# Altium integrated library Handheld.IntLib: 34 symbols
Pins are listed as number, name and electrical type; pins without a type are passive.

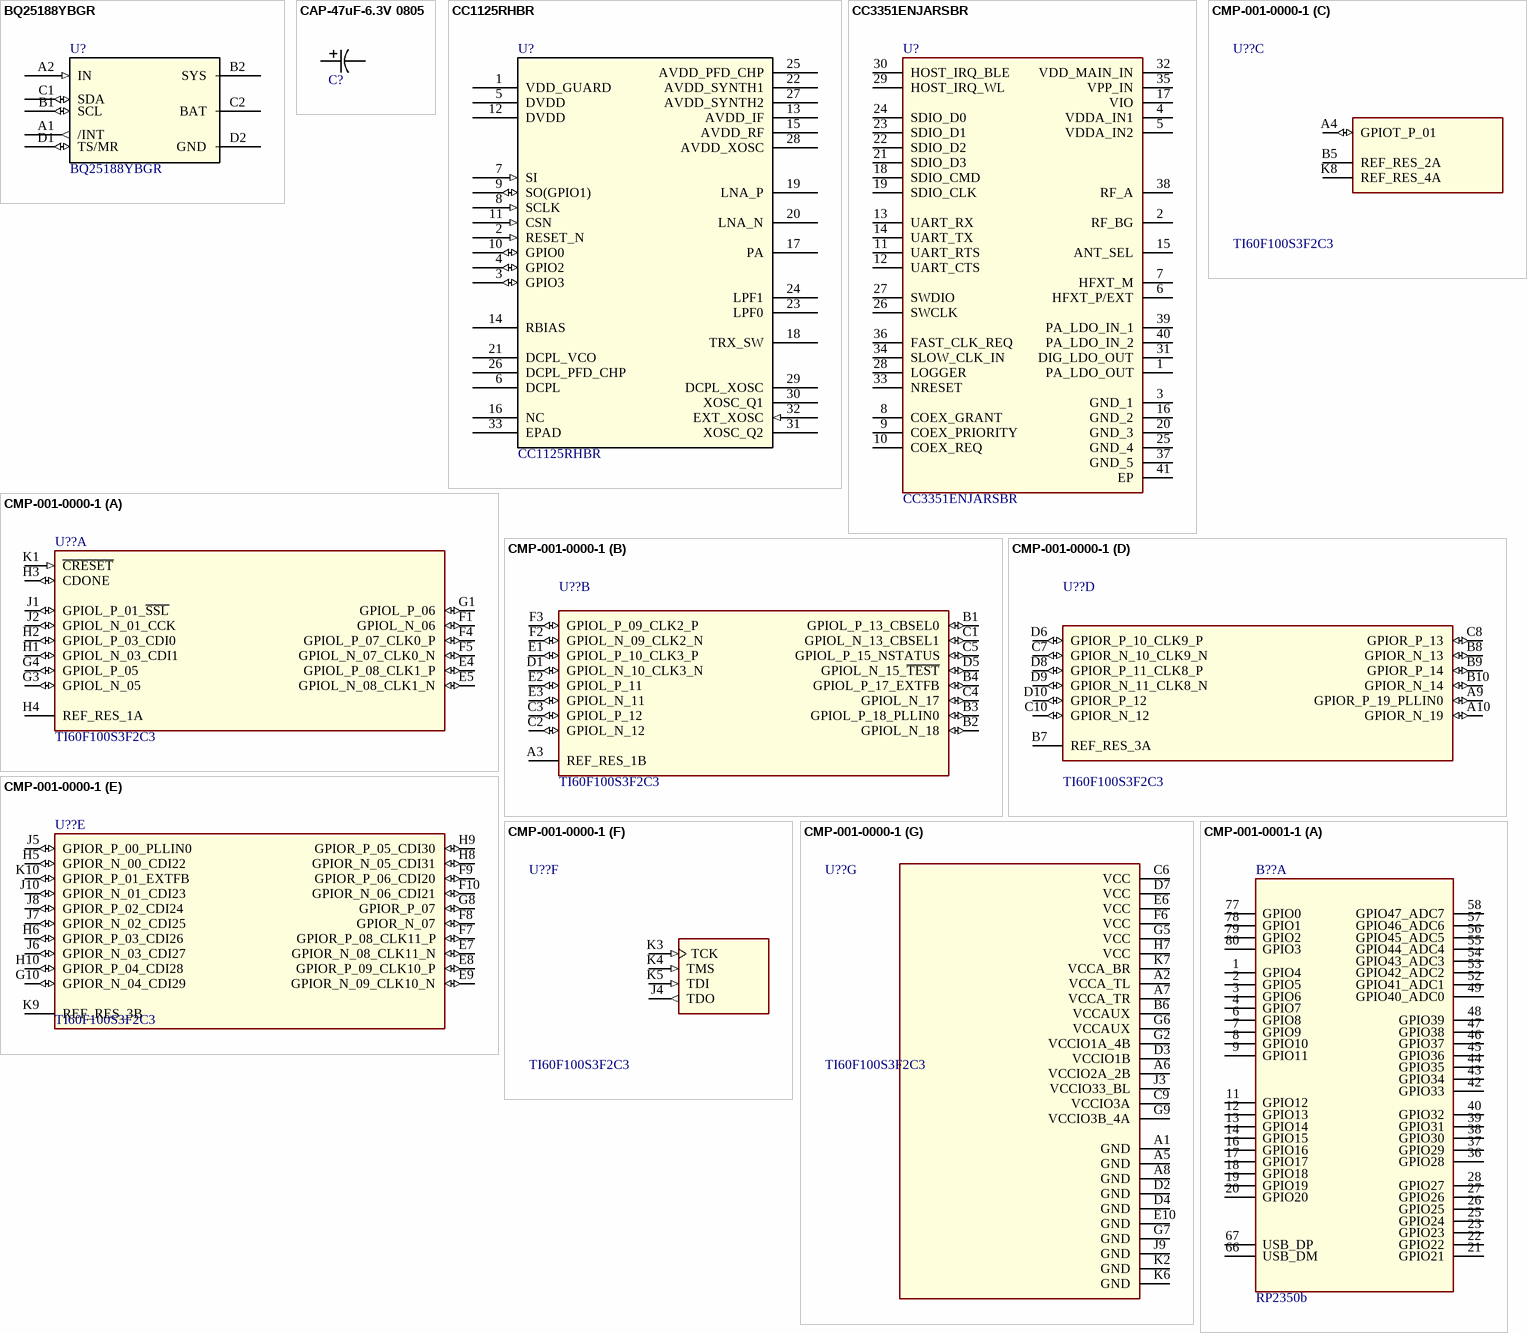
[diagram p0: symbols BQ25188YBGR to CMP-001-0001-1]

## BQ25188YBGR
designator U?
I2C, 1A single cell linear battery charger, 18V input, powerpath, ship mode and battery tracking 8-DSBGA -40 to 85; Manufacturer_Name: Texas Instruments; Copyright: Copyright (C) 2025 Ultra Librarian. All rights reserved.; Manufacturer_Part_Number: BQ25188YBGR; RefDes: RefDes; Type: Type
footprint DSBGA8_YCK_TEX
pins: A1 /INT (out), A2 IN (in), B1 SCL (io), B2 SYS (power), C1 SDA (io), C2 BAT (power), D1 TS/MR (io), D2 GND (power)

## CAP-47uF-6.3V 0805
designator C?, comment T529P476M006AAE150  (value not drawn)
T529, Tantalum, Polymer Tantalum, Reduced Volume, 47 uF, 20%, 6.3 VDC, SMD, Polymer, Substrate, 150 mOhms, 2012, Height Max = 1mm; Manufacturer_Name: Kemet; Copyright: Copyright (C) 2025 Ultra Librarian. All rights reserved.; Manufacturer_Part_Number: T529P476M006AAE150; Datasheet: https://content.kemet.com/datasheets/KEM_T2076_T52X-530.pdf
footprint CAPMP2.1X1.25_1N_KEM
pins: 1, 2

## CC1125RHBR
designator U?
Ultra-high performance Sub-1 GHz wireless transceiver for narrowband systems 32-VQFN -40 to 85; Manufacturer_Name: Texas Instruments; Copyright: Copyright (C) 2025 Ultra Librarian. All rights reserved.; Manufacturer_Part_Number: CC1125RHBR; RefDes: RefDes; Type: Type
footprint RHB32_3P45X3P45_TEX
pins: 1 VDD_GUARD (power), 2 RESET_N (in), 3 GPIO3 (io), 4 GPIO2 (io), 5 DVDD (power), 6 DCPL (power), 7 SI (in), 8 SCLK (in), 9 SO(GPIO1) (io), 10 GPIO0 (io), 11 CSN (in), 12 DVDD (power), 13 AVDD_IF (power), 14 RBIAS, 15 AVDD_RF (power), 16 NC, 17 PA, 18 TRX_SW, 19 LNA_P, 20 LNA_N, 21 DCPL_VCO (power), 22 AVDD_SYNTH1 (power), 23 LPF0, 24 LPF1, 25 AVDD_PFD_CHP (power), 26 DCPL_PFD_CHP (power), 27 AVDD_SYNTH2 (power), 28 AVDD_XOSC (power), 29 DCPL_XOSC (power), 30 XOSC_Q1, 31 XOSC_Q2, 32 EXT_XOSC (in), 33 EPAD

## CC3351ENJARSBR
designator U?
Wi-Fi 6 (802.11ax)  Bluetooth Low Energy 5.4 in CC33x1 devices  Companion IC to any processor or MCU host capable of running a TCP/IP stack  Integrated 2.4GHz and 5GHz PA for complete wireless solution with up to +20.5dBm output power.  Operating temperature: 40C to +105C  Application throughput up to 50Mbps; Manufacturer_Name: Texas Instruments; Geometry.Height: 0.8mm; Manufacturer_Part_Number: CC3351ENJARSBR; Mouser Part Number: 595-CC3351ENJARSBR; Mouser Price/Stock: https://www.mouser.co.uk/ProductDetail/Texas-Instruments/CC3351ENJARSBR?qs=iLKYxzqNS77FIPECga1PlQ%3D%3D; Arrow Part Number: CC3351ENJARSBR; Arrow Price/Stock: https://www.arrow.com/en/products/cc3351enjarsbr/texas-instruments?utm_currency=USD&region=nac; Datasheet Link: https://www.ti.com/lit/ds/symlink/cc3351.pdf?ts=1729762003874&ref_url=https%253A%252F%252Fwww.ti.com%252F
footprint QFN40P500X500X80-41N-D
pins: 1 PA_LDO_OUT, 2 RF_BG, 3 GND_1, 4 VDDA_IN1, 5 VDDA_IN2, 6 HFXT_P/EXT, 7 HFXT_M, 8 COEX_GRANT, 9 COEX_PRIORITY, 10 COEX_REQ, 11 UART_RTS, 12 UART_CTS, 13 UART_RX, 14 UART_TX, 15 ANT_SEL, 16 GND_2, 17 VIO, 18 SDIO_CMD, 19 SDIO_CLK, 20 GND_3, 21 SDIO_D3, 22 SDIO_D2, 23 SDIO_D1, 24 SDIO_D0, 25 GND_4, 26 SWCLK, 27 SWDIO, 28 LOGGER, 29 HOST_IRQ_WL, 30 HOST_IRQ_BLE, 31 DIG_LDO_OUT, 32 VDD_MAIN_IN, 33 NRESET, 34 SLOW_CLK_IN, 35 VPP_IN, 36 FAST_CLK_REQ, 37 GND_5, 38 RF_A, 39 PA_LDO_IN_1, 40 PA_LDO_IN_2, 41 EP

## CMP-001-0000-1
designator U??, comment TI60F100S3F2C3
FPGA Titan 61HSIO 3PLL 100BGA; Manufacturer: Efinix; PartId: 1; Manufacturer Part Number: TI60F100S3F2C3
footprint IC_TI60F100S3F2C3
part A pins: E4 GPIOL_P_08_CLK1_P (io), E5 GPIOL_N_08_CLK1_N (io), F1 GPIOL_N_06 (io), F4 GPIOL_P_07_CLK0_P (io), F5 GPIOL_N_07_CLK0_N (io), G1 GPIOL_P_06 (io), G3 GPIOL_N_05 (io), G4 GPIOL_P_05 (io), H1 GPIOL_N_03_CDI1 (io), H2 GPIOL_P_03_CDI0 (io), H3 CDONE (io), H4 REF_RES_1A, J1 GPIOL_P_01_~{SSL} (io), J2 GPIOL_N_01_CCK (io), K1 ~{CRESET} (in)
part B pins: A3 REF_RES_1B, B1 GPIOL_P_13_CBSEL0 (io), B2 GPIOL_N_18 (io), B3 GPIOL_P_18_PLLIN0 (io), B4 GPIOL_P_17_EXTFB (io), C1 GPIOL_N_13_CBSEL1 (io), C2 GPIOL_N_12 (io), C3 GPIOL_P_12 (io), C4 GPIOL_N_17 (io), C5 GPIOL_P_15_NSTATUS (io), D1 GPIOL_N_10_CLK3_N (io), D5 GPIOL_N_15_~{TEST} (io), E1 GPIOL_P_10_CLK3_P (io), E2 GPIOL_P_11 (io), E3 GPIOL_N_11 (io), F2 GPIOL_N_09_CLK2_N (io), F3 GPIOL_P_09_CLK2_P (io)
part C pins: A4 GPIOT_P_01 (io), B5 REF_RES_2A, K8 REF_RES_4A
part D pins: A9 GPIOR_P_19_PLLIN0 (io), A10 GPIOR_N_19 (io), B7 REF_RES_3A, B8 GPIOR_N_13 (io), B9 GPIOR_P_14 (io), B10 GPIOR_N_14 (io), C7 GPIOR_N_10_CLK9_N (io), C8 GPIOR_P_13 (io), C10 GPIOR_N_12 (io), D6 GPIOR_P_10_CLK9_P (io), D8 GPIOR_P_11_CLK8_P (io), D9 GPIOR_N_11_CLK8_N (io), D10 GPIOR_P_12 (io)
part E pins: E7 GPIOR_N_08_CLK11_N (io), E8 GPIOR_P_09_CLK10_P (io), E9 GPIOR_N_09_CLK10_N (io), F7 GPIOR_P_08_CLK11_P (io), F8 GPIOR_N_07 (io), F9 GPIOR_P_06_CDI20 (io), F10 GPIOR_N_06_CDI21 (io), G8 GPIOR_P_07 (io), G10 GPIOR_N_04_CDI29 (io), H5 GPIOR_N_00_CDI22 (io), H6 GPIOR_P_03_CDI26 (io), H8 GPIOR_N_05_CDI31 (io), H9 GPIOR_P_05_CDI30 (io), H10 GPIOR_P_04_CDI28 (io), J5 GPIOR_P_00_PLLIN0 (io), J6 GPIOR_N_03_CDI27 (io), J7 GPIOR_N_02_CDI25 (io), J8 GPIOR_P_02_CDI24 (io), J10 GPIOR_N_01_CDI23 (io), K9 REF_RES_3B, K10 GPIOR_P_01_EXTFB (io)
part F pins: J4 TDO (out), K3 TCK (in), K4 TMS (in), K5 TDI (in)
part G pins: A1 GND (power), A2 VCCA_TL (power), A5 GND (power), A6 VCCIO2A_2B (power), A7 VCCA_TR (power), A8 GND (power), B6 VCCAUX (power), C6 VCC (power), C9 VCCIO3A (power), D2 GND (power), D3 VCCIO1B (power), D4 GND (power), D7 VCC (power), E6 VCC (power), E10 GND (power), F6 VCC (power), G2 VCCIO1A_4B (power), G5 VCC (power), G6 VCCAUX (power), G7 GND (power), G9 VCCIO3B_4A (power), H7 VCC (power), J3 VCCIO33_BL (power), J9 GND (power), K2 GND (power), K6 GND (power), K7 VCCA_BR (power)

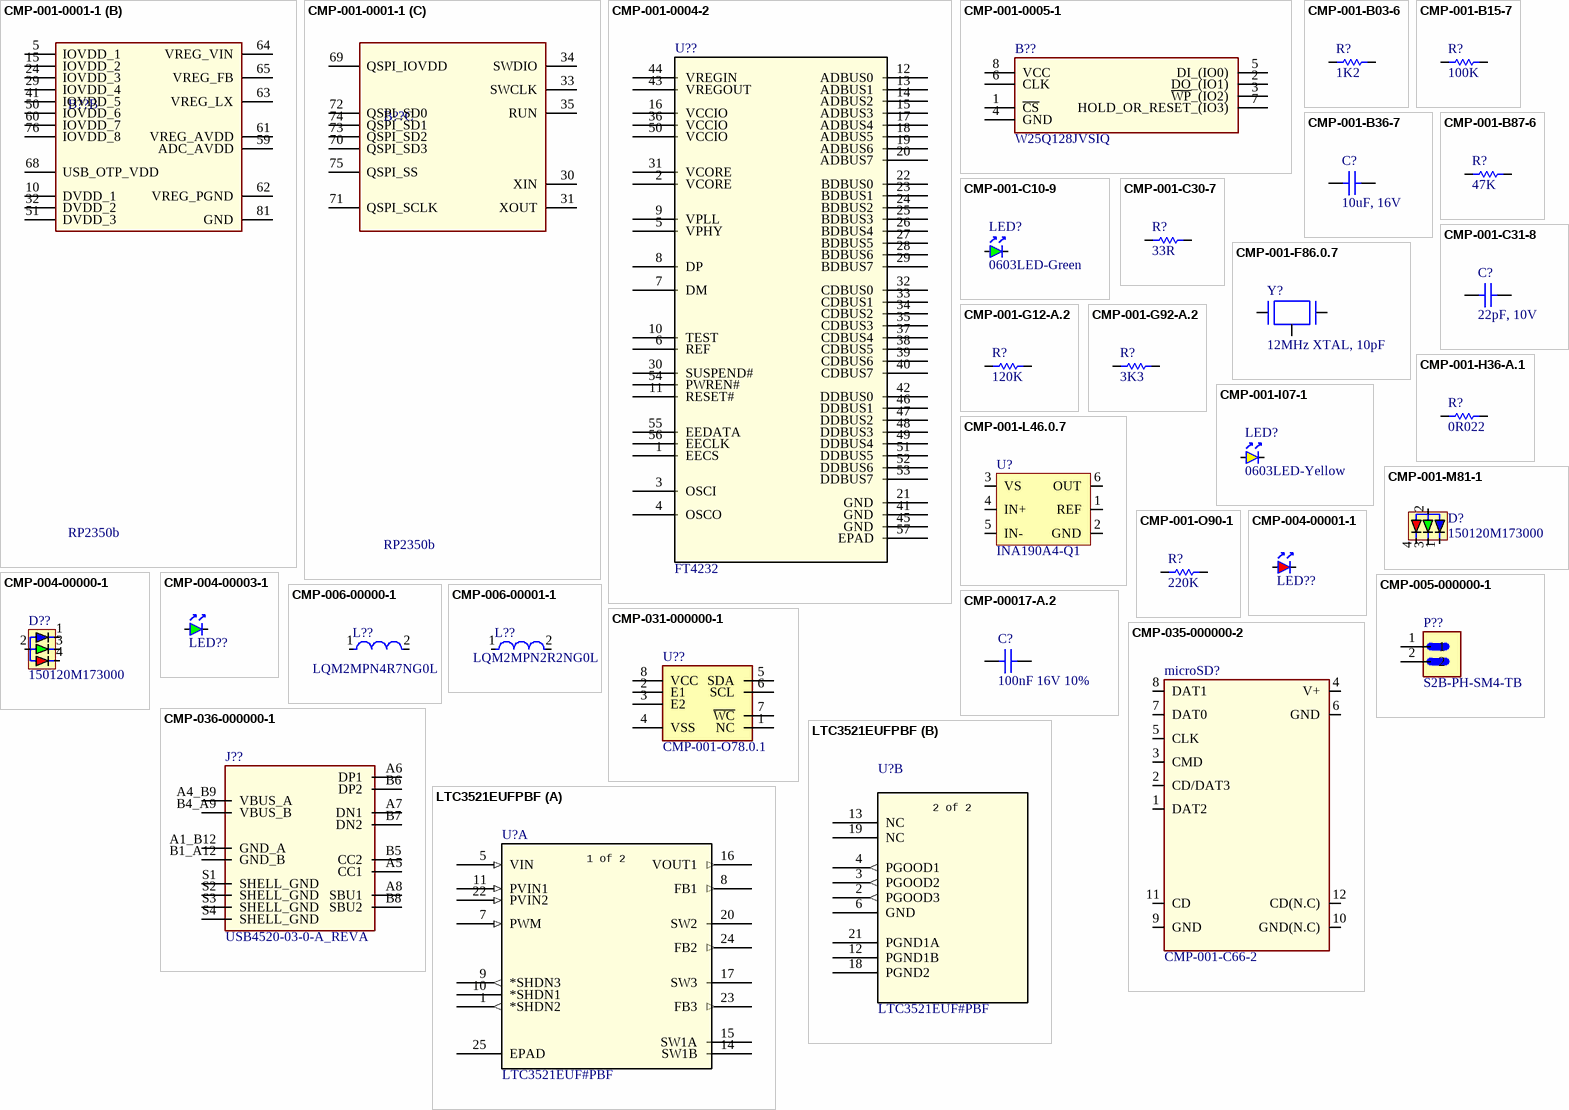
[diagram p1: symbols CMP-001-0001-1 to LTC3521EUFPBF]

## CMP-001-0001-1
designator B??, comment RP2350b
2x Arm Cortex-M33 / 2x Hazard3 RISC-V @ 150MHz, 520 KB SRAM, SHA-256; Manufacturer: Raspberry Pi; Manufacturer Part Number: RP2350B-CT; PartId: 1
footprint QFN40P1000X1000X90-81N-D
part A pins: 1 GPIO4, 2 GPIO5, 3 GPIO6, 4 GPIO7, 6 GPIO8, 7 GPIO9, 8 GPIO10, 9 GPIO11, 11 GPIO12, 12 GPIO13, 13 GPIO14, 14 GPIO15, 16 GPIO16, 17 GPIO17, 18 GPIO18, 19 GPIO19, 20 GPIO20, 21 GPIO21, 22 GPIO22, 23 GPIO23, 25 GPIO24, 26 GPIO25, 27 GPIO26, 28 GPIO27, 36 GPIO28, 37 GPIO29, 38 GPIO30, 39 GPIO31, 40 GPIO32, 42 GPIO33, 43 GPIO34, 44 GPIO35, 45 GPIO36, 46 GPIO37, 47 GPIO38, 48 GPIO39, 49 GPIO40_ADC0, 52 GPIO41_ADC1, 53 GPIO42_ADC2, 54 GPIO43_ADC3, 55 GPIO44_ADC4, 56 GPIO45_ADC5, 57 GPIO46_ADC6, 58 GPIO47_ADC7, 66 USB_DM, 67 USB_DP, 77 GPIO0, 78 GPIO1, 79 GPIO2, 80 GPIO3
part B pins: 5 IOVDD_1, 10 DVDD_1, 15 IOVDD_2, 24 IOVDD_3, 29 IOVDD_4, 32 DVDD_2, 41 IOVDD_5, 50 IOVDD_6, 51 DVDD_3, 59 ADC_AVDD, 60 IOVDD_7, 61 VREG_AVDD, 62 VREG_PGND, 63 VREG_LX, 64 VREG_VIN, 65 VREG_FB, 68 USB_OTP_VDD, 76 IOVDD_8, 81 GND
part C pins: 30 XIN, 31 XOUT, 33 SWCLK, 34 SWDIO, 35 RUN, 69 QSPI_IOVDD, 70 QSPI_SD3, 71 QSPI_SCLK, 72 QSPI_SD0, 73 QSPI_SD2, 74 QSPI_SD1, 75 QSPI_SS

## CMP-001-0004-2
designator U??, comment FT4232
Usb Hi-speed to Quad Channel Serial UART/JTAG/SPI/I2C IC, QFN-56; Manufacturer: FTDI; Manufacturer Part Number: FT4232H-56Q-REEL; Data Rate: 1.5Mbps; Max Supply Voltage: 1.98V; Number of I/Os: 4; Interface: I2C, RS-232, RS-422, RS-485, SPI, UART, USB; Clock Frequency: 12MHz; Min Supply Voltage: 1.62V; Operating Supply Voltage: 1.8V; Width: 8mm; RoHS: Compliant; Length: 8mm; Number of Terminals: 56; Height - Seated (Max): 1mm; Packaging: Cut Tape; REACH SVHC: Yes; Min Operating Temperature: -40°C; Case/Package: VQFN; Terminal Pitch: 500µm; Pins: 64; Lifecycle Status: Production; Max Operating Temperature: 85°C
footprint VQFN-56Y856_FTD-M
pins: 1 EECS, 2 VCORE, 3 OSCI, 4 OSCO, 5 VPHY, 6 REF, 7 DM, 8 DP, 9 VPLL, 10 TEST, 11 RESET#, 12 ADBUS0, 13 ADBUS1, 14 ADBUS2, 15 ADBUS3, 16 VCCIO, 17 ADBUS4, 18 ADBUS5, 19 ADBUS6, 20 ADBUS7, 21 GND, 22 BDBUS0, 23 BDBUS1, 24 BDBUS2, 25 BDBUS3, 26 BDBUS4, 27 BDBUS5, 28 BDBUS6, 29 BDBUS7, 30 SUSPEND#, 31 VCORE, 32 CDBUS0, 33 CDBUS1, 34 CDBUS2, 35 CDBUS3, 36 VCCIO, 37 CDBUS4, 38 CDBUS5, 39 CDBUS6, 40 CDBUS7, 41 GND, 42 DDBUS0, 43 VREGOUT, 44 VREGIN, 45 GND, 46 DDBUS1, 47 DDBUS2, 48 DDBUS3, 49 DDBUS4, 50 VCCIO, 51 DDBUS5, 52 DDBUS6, 53 DDBUS7, 54 PWREN#, 55 EEDATA, 56 EECLK, 57 EPAD

## CMP-001-0005-1
designator B??, comment W25Q128JVSIQ
NOR Flash Serial (SPI, Dual SPI, Quad SPI) 3.3V 128M-bit 16M x 8 6ns 8-Pin SOIC Tube; Manufacturer: Winbond; Frequency: 104MHz; Number of Circuits: 1; Memory Size: 16MB; Operating Supply Voltage: 3V; Max Supply Current: 20mA; Min Supply Voltage: 2.7V; Clock Frequency: 133MHz; Max Supply Voltage: 3.6V; Schedule B: 8542320070, 8542320070; Interface: Serial; RoHS: Compliant; Width: 5.23mm; Min Operating Temperature: -40°C; Number of Terminals: 8; Max Operating Temperature: 85°C; Case/Package: SOIC; Length: 5.23mm; Memory Format: FLASH; Height - Seated (Max): 2.16mm; REACH SVHC: Yes; Ambient Temperature Range High: 85°C; Lifecycle Status: Production; Terminal Pitch: 1.27mm; Height: 2.16mm; China RoHS: Compliant; Manufacturer Part Number: W25Q128JVSIQ
footprint SOIC127P790X216-8N
pins: 1 ~{CS}, 2 DO_(IO1), 3 ~{WP}_(IO2), 4 GND, 5 DI_(IO0), 6 CLK, 7 HOLD_OR_RESET_(IO3), 8 VCC

## CMP-001-B03-6
designator R?, comment 1K2
1K2, 5%, 1/10W, 0603; Manufacturer: Samsung Electro-Mechanics America, Inc; Manufacturer Part Number: RC1608J122CS
footprint 0603 Resistor (Chip Resistor, Body 1.6x0.8mm, IPC High Density)
pins: 1, 2
1 alternate drawing of the same symbol

## CMP-001-B15-7
designator R?, comment 100K
100K, 1%, 1/10W, 0603; Manufacturer Part Number: ERJ-3EKF1003V; Manufacturer: Panasonic; Manufacturer Part Number: ERJ3EKF-1003V; Resistance: 100kR; Temperature Coefficient: 100ppm/°C; Voltage Rating: 75V; Power Rating: 100mW; Packaging: Tape and Reel; Contact Plating: Tin; Supplier: Digi-Key; Tolerance: 1%; Package Quantity: 1; Length: 1.6mm; Weight: 7.1E-05oz; Number of Terminations: 2; Height: 0.022inch; Case/Package: 0603; Military Standard: Not; Depth: 0.8mm; REACH SVHC: No SVHC; Case Code (Metric): 1608; Min Operating Temperature: -55°C; Features: Automotive AEC-Q200; Max Operating Temperature: 155°C; Mount: Surface Mount; Voltage Rating (DC): 75V; Termination: SMD/SMT; Lead Free: Lead Free; Width: 0.8mm; Composition: Thick Film; Case Code (Imperial): 0603; Supplier Part Number: P100KHTR-ND; Max Power Dissipation: 100mW; Number of Pins: 2; Radiation Hardening: No
footprint 0603 Resistor (Chip Resistor, Body 1.6x0.8mm, IPC High Density)
pins: 1, 2
1 alternate drawing of the same symbol

## CMP-001-B36-7
designator C?, comment 10uF, 16V
10uF, 16V, 20%, X5R, 0603; value: 10uF
footprint 0603 Capacitor (Chip Capacitor, Body 1.6x0.8mm, Height 0.55mm, IPC High Density)
pins: 1, 2
1 alternate drawing of the same symbol

## CMP-001-B87-6
designator R?, comment 47K
47K, 1%, 1/10W, 0603; Manufacturer: Rohm Semiconductor; Manufacturer Part Number: MCR03ERTF4702
footprint 0603 Resistor (Chip Resistor, Body 1.6x0.8mm, IPC High Density)
pins: 1, 2
1 alternate drawing of the same symbol

## CMP-001-C10-9
designator LED?, comment 0603LED-Green
SMD LED 0603, Green; Component Type: LED
footprint LED-0603-RED
pins: 1 A, 2 K

## CMP-001-C30-7
designator R?, comment 33R
33R, 1%, 1/10W, 0603; Manufacturer: Panasonic; Manufacturer Part Number: ERJ-3EKF33R0V; Temperature Coefficient: 100ppm/°C; Max Power Dissipation: 100mW; Voltage Rating: 75V; REACH SVHC: No SVHC; Resistance: 33R; Composition: Thick Film; Tolerance: 1%; Lead Free: Lead Free; Contact Plating: Tin; Package Quantity: 1; Number of Terminations: 2; Number of Pins: 2; Case Code (Metric): 1608; Width: 0.031inch; Min Operating Temperature: -55°C; Military Standard: Not; Termination: SMD/SMT; Radiation Hardening: No; Case Code (Imperial): 0603; Mount: Surface Mount; Depth: 0.8mm; Max Operating Temperature: 155°C; Voltage Rating (DC): 75V; Features: Automotive AEC-Q200; Power Rating: 100mW; Packaging: Tape and Reel; Supplier Part Number: P33.0HCT-ND; Length: 1.6mm; Supplier: Digi-Key; Height: 0.022inch; Case/Package: 0603
footprint 0603 Resistor (Chip Resistor, Body 1.6x0.8mm, IPC High Density)
pins: 1, 2
1 alternate drawing of the same symbol

## CMP-001-C31-8
designator C?, comment 22pF, 10V
22pF, 10V, 1%, NP0, 0603; Manufacturer: Samsung Electro-Mechanics America, Inc; Manufacturer Part Number: CL10C220FB8NNNC
footprint 0603 Capacitor (Chip Capacitor, Body 1.6x0.8mm, Height 0.55mm, IPC High Density)
pins: 1, 2
1 alternate drawing of the same symbol

## CMP-001-F86.0.7
designator Y?, comment 12MHz XTAL, 10pF
Crystal oscillator, 10pF; Manufacturer: Epson; Manufacturer Part Number: FA-238V 12.0000MB-K3
footprint FA-238V (Crystal DFN 4 pads FA-238V footprint)
pins: 1, 2, 3, 4 (power)

## CMP-001-G12-A.2
designator R?, comment 120K
120K, 0.1%, 1/10W, 0603; Manufacturer: PANASONIC ELECTRONIC COMPONENTS; Manufacturer Part Number: ERA-3AEB124V
footprint 0603 Resistor (Chip Resistor, Body 1.6x0.8mm, IPC High Density)
pins: 1, 2
1 alternate drawing of the same symbol

## CMP-001-G92-A.2
designator R?, comment 3K3
3K3, 5%, 1/10W, 0603; Manufacturer: Panasonic; Manufacturer Part Number: ERJ-3GEYJ332V
footprint 0603 Resistor (Chip Resistor, Body 1.6x0.8mm, IPC High Density)
pins: 1, 2
1 alternate drawing of the same symbol

## CMP-001-H36-A.1
designator R?, comment 0R022
0R022, 2%, 1/2W, 1206; Component Type: Resistor
footprint 1206 Resistor Package (High Power 1206 Resistor)
pins: 1, 2
1 alternate drawing of the same symbol

## CMP-001-I07-1
designator LED?, comment 0603LED-Yellow
SMD LED 0603, Yellow; Manufacturer: Vishay; Manufacturer Part Number: TLMO1100-GS08; Component Type: LED
footprint LED-0603-RED
pins: 1 A, 2 K

## CMP-001-L46.0.7
designator U?, comment INA190A4-Q1
Automotive grade current sense amplifier, 200x gain; Manufacturer: Texas Instruments; Manufacturer Part Number: INA190A4QDCKRQ1; Component Type: Amplifier
footprint SOT65P210X110-6N (SOT23, 6-Leads, Body 2.00x2.10mm, Pitch 0.65mm, IPC Medium Density)
pins: 1 REF, 2 GND, 3 VS, 4 IN+, 5 IN-, 6 OUT

## CMP-001-M81-1
designator D?, comment 150120M173000
1206 RGB LED Wurth; Manufacturer: Wurth Elektronik; Manufacturer Part Number: 150120M173000; Component Type: LED
footprint 150120M173000-Footprint-1
pins: 1 5, 2 Anode, 3 4, 4 3

## CMP-001-O90-1
designator R?, comment 220K
220K, 1%, 1/10W, 0603; Component Type: Resistor
footprint 0603 Resistor (Chip Resistor, Body 1.6x0.8mm, IPC High Density)
pins: 1, 2
1 alternate drawing of the same symbol

## CMP-004-00000-1
designator D??, comment 150120M173000
Led, Red/Green/Blue, 360Mcd/1Cd/350Mcd Rohs Compliant: Yes; Manufacturer: Wurth Elektronik; Max Reverse Voltage (DC): 5V; Viewing Angle: 120°; Forward Current: 100mA; Luminous Intensity: 350mcd; Dominant Wavelength: 525nm; Forward Voltage: 2V; Power Dissipation: 65mW; Peak Wavelength: 468nm; Max Operating Temperature: 85°C; Width: 1.6mm; Length: 3.2mm; Height: 700µm; RoHS: Compliant; Min Operating Temperature: -40°C; Manufacturer Part Number: 150120M173000; Component Type: Diodes
footprint WL-SFCW_1206 (SMT Full-color Chip LED Waterclear, body 3.20 x 1.60mm)
pins: 1 5, 2 Anode, 3 4, 4 3

## CMP-004-00001-1
designator LED??, comment SMD LED, 0603 Red  (value not drawn)
0603LED-Red; Source: Components - 10.10.25 - 00.17.SchLib; Pin Count: 2; Design Item ID: CMP-001-A01-11; Component Type: Standard; Component Type: LED
footprint LED-0603-RED
pins: 1 A, 2 K

## CMP-004-00003-1
designator LED??, comment SMD LED 0603, Green  (value not drawn)
0603LED-Green; Component Type: Standard; Design Item ID: CMP-001-C10-9; Source: Components - 10.10.25 - 00.17.SchLib; Pin Count: 2; Component Type: LED
footprint LED-0603-RED
pins: 1 A, 2 K

## CMP-005-000000-1
designator P??, comment S2B-PH-SM4-TB
Connector Header Surface Mount, Right Angle 2 position 0.079 (2.00mm); MF: JST Sales; SnapEDA_Link: https://www.snapeda.com/parts/S2B-PH-SM4-TB/JST/view-part/?ref=snap; Package: None; Source: Handheld.SchLib; Value: *; Design Item ID: S2B-PH-SM4-TB; MP: S2B-PH-SM4-TB; Check_prices: https://www.snapeda.com/parts/S2B-PH-SM4-TB/JST/view-part/?ref=eda; Component Type: Connectors
footprint JST_S2B-PH-SM4-TB
pins: 1, 2

## CMP-006-00000-1
designator L??, comment LQM2MPN4R7NG0L
Inductor Power Chip Shielded Multi-Layer 4.7uH 30% 1MHz Ferrite 1.1A 0.175Ohm DCR 0806 T/R; Manufacturer Lifecycle Status: IN PRODUCTION; Manufacturer: Murata; Self Resonant Frequency: 20MHz; Value: 175mΩ; Number of Circuits: 1; Shielding: Yes; Case Code (Metric): 2016; REACH SVHC: Yes; Military Standard: Not; Height - Seated (Max): 990.6µm; Max Current Rating: 1.1A; Min Operating Temperature: -55°C; Core Material: Ferrite; Termination: SMD/SMT; Tolerance: 30%; Mounting Technology: Surface Mount; Number of Terminals: 2; Max DC Current: 1.1A; RoHS: Compliant; Lifecycle Status: Production; Depth: 1.6mm; Case/Package: 0806; Case Code (Imperial): 0806; Packaging: Cut Tape; RMS Current (Irms): 1.1A; Inductance Tolerance: 30%; Current Rating: 1.1A; Schedule B: 8504500000, 8504500000; ESR: 175mΩ; Test Frequency: 1MHz; Length: 2mm; DC Current: 1.1A; Max Operating Temperature: 125°C; DC Resistance (DCR): 175mΩ; Height: 900µm; Lead Free: Lead Free; Width: 1.6mm; Manufacturer Part Number: LQM2MPN4R7NG0L; Component Type: Inductors
footprint FP-LQM2MPN_G0-IPC_B
pins: 1, 2

## CMP-006-00001-1
designator L??, comment LQM2MPN2R2NG0L
Inductor Power Chip Shielded Multi-Layer 2.2uH 30% 1MHz Ferrite 1.2A 0.138Ohm DCR 0806 T/R; Manufacturer Lifecycle Status: IN PRODUCTION; Manufacturer: Murata; Value: 138mΩ; Shielding: Yes; Self Resonant Frequency: 40MHz; Number of Circuits: 1; Depth: 1.75mm; Max Operating Temperature: 125°C; DC Current: 1.2A; Schedule B: 8504500000, 8504500000; Test Frequency: 1MHz; Current Rating: 1.2A; Case Code (Imperial): 0806; Packaging: Cut Tape; Military Standard: Not; Height: 900µm; Max Current Rating: 1.2A; Lead Free: Lead Free; Tolerance: 30%; REACH SVHC: Yes; Min Operating Temperature: -55°C; Radiation Hardening: No; Number of Terminals: 2; ESR: 138mΩ; Width: 1.6mm; Inductance Tolerance: 30%; Lifecycle Status: Production; Height - Seated (Max): 990.6µm; Case Code (Metric): 2016; Case/Package: 0806; Max DC Current: 1.2A; Core Material: Ferrite; Termination: SMD/SMT; RoHS: Compliant; Mounting Technology: Surface Mount; RMS Current (Irms): 1.2A; DC Resistance (DCR): 138mΩ; Length: 2.0066mm; Manufacturer Part Number: LQM2MPN2R2NG0L; Component Type: Inductors
footprint FP-LQM2MPN_G0-IPC_B
pins: 1, 2

## CMP-00017-A.2
designator C?, comment 100nF 16V 10%
100nF 16V; Manufacturer: Samsung Electro-Mechanics America, Inc.; Manufacturer Part Number: CL05B104KO5NNNC
footprint 0402 (0402 Capacitor)
pins: 1, 2
1 alternate drawing of the same symbol

## CMP-031-000000-1
designator U??, comment CMP-001-O78.0.1
IC EEPROM 4KBIT I2C 1MHZ 8SOIC; Manufacturer Part Number: M24C04-DRMN3TP/K; Manufacturer: STMicroelectronics; Source: Components - 10.10.25 - 00.26.2.SchLib; Pin Count: 8; Design Item ID: CMP-001-O78.0.1; Component Type: EEPROM; Component Type: Memory
footprint M24C04-DRMN3TP_K-Footprint-1
pins: 1 NC, 2 E1, 3 E2, 4 VSS, 5 SDA, 6 SCL, 7 ~{WC}, 8 VCC

## CMP-035-000000-2
designator microSD?, comment CMP-001-C66-2
wurth µSD connector; Component Type: Standard; Pin Count: 12; price: 26 kr; Supplier nr.: 732-3819-1-ND; Source: Components - 10.10.25 - 00.29.SchLib; manufacturer: Wurth; Design Item ID: CMP-001-C66-2; Component Type: Memory
footprint microSD
pins: 1 DAT2, 2 CD/DAT3, 3 CMD, 4 V+, 5 CLK, 6 GND, 7 DAT0, 8 DAT1, 9 GND, 10 GND(N.C) "Do not connect", 11 CD, 12 CD(N.C) "Do not connect"

## CMP-036-000000-1
designator J??, comment USB4520-03-0-A_REVA
USB Type C Receptacle for USB 2.0, SMT Type Mid Mount, 2.0mm Offset; MF: Global Connector Technology; Design Item ID: USB4520-03-0-A_REVA; Check_prices: https://www.snapeda.com/parts/USB4520-03-0-A/Global+Connector+Technology/view-part/?ref=eda; Value: *; Availability: In Stock; Source: USB4520-03-0-A_REVA.SchLib; Pin Count: 16; SnapEDA_Link: https://www.snapeda.com/parts/USB4520-03-0-A/Global+Connector+Technology/view-part/?ref=snap; Purchase-URL: https://pricing.snapeda.com/search/part/USB4520-03-0-A/?ref=eda; MP: USB4520-03-0-A; Package: None; Price: None; Component Type: Standard; Component Type: Connectors
footprint GCT_USB4520-03-0-A_REVA
pins: A1_B12 GND_A (power), A4_B9 VBUS_A (power), A5 CC1, A6 DP1, A7 DN1, A8 SBU1, B1_A12 GND_B (power), B4_A9 VBUS_B (power), B5 CC2, B6 DP2, B7 DN2, B8 SBU2, S1 SHELL_GND (power), S2 SHELL_GND (power), S3 SHELL_GND (power), S4 SHELL_GND (power)

## LTC3521EUFPBF
designator U?, comment LTC3521EUF#PBF
1A Buck-Boost DC/DC and Dual 600mA Buck DC/DC Converters; Manufacturer_Name: Analog Devices Inc; Copyright: Copyright (C) 2025 Ultra Librarian. All rights reserved.; Manufacturer_Part_Number: LTC3521EUF#PBF; Datasheet: https://www.analog.com/media/en/technical-documentation/data-sheets/3521fb.pdf; RefDes: RefDes; Type: Type
footprint QFN-24_UF_LIT
part A pins: 1 *SHDN2 (out), 5 VIN (in), 7 PWM (in), 8 FB1 (out), 9 *SHDN3 (out), 10 *SHDN1, 11 PVIN1 (in), 14 SW1B, 15 SW1A, 16 VOUT1 (out), 17 SW3, 20 SW2, 22 PVIN2 (in), 23 FB3 (out), 24 FB2 (out), 25 EPAD
part B pins: 2 PGOOD3 (out), 3 PGOOD2 (out), 4 PGOOD1 (out), 6 GND (power), 12 PGND1B (power), 13 NC, 18 PGND2 (power), 19 NC, 21 PGND1A (power)
part A text: 1 of 2
part B text: 2 of 2